# Altium schematic symbol library CD4072BM96.Schlib: 1 symbol
Pins are listed as number, name and electrical type; pins without a type are passive.

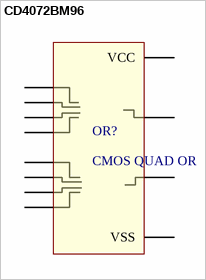
[diagram p0: symbol CD4072BM96]

## CD4072BM96
designator OR?, comment CMOS QUAD OR
IC LOGIC GATE DUAL QUAD OR
pins: 1, 1, 2, 3, 4, 7 VSS, 9, 10, 11, 12, 13, 14 VCC